# Altium footprint library ACJSMHD.PcbLib: 1 footprints
Each footprint in its own frame and in the unit in brackets; x right, y up, seen from the top. Pads: shape width x height; smd on the part's side, far side on the other; paste and mask are expansions set on the pad; w line width, h text height; cw(c..) or ccw(c..) is an arc to the next point about the centre after c.
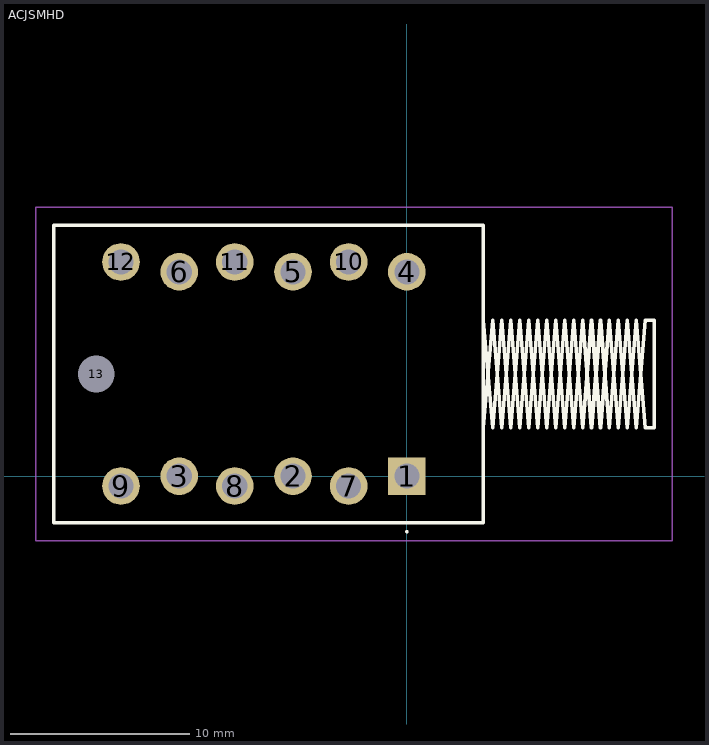
[diagram p0: the footprint, top view; thin cyan lines are the x and y axes]

## ACJSMHD [mm]
pads (13):
  rect 2.1x2.1 hole 1.4: 1(0,0)
  round 2.1 hole 1.4: 2(-6.35,0) 3(-12.7,0) 4(0,11.4) 5(-6.35,11.4) 6(-12.7,11.4) 7(-3.25,-0.55) 8(-9.6,-0.55) 9(-15.95,-0.55) 10(-3.25,11.95) 11(-9.6,11.95) 12(-15.95,11.95)
  round 1.025 hole 2.05 unplated: 13(-17.33,5.7)
Top Overlay:
  lines w0.1: 0,-3.15 0,-3.15 ; 0,-3.15 ccw(c0,-3.1) 0,-3.05 ; 0,-3.15 cw(c0,-3.1) 0,-3.05 ; 0,-3.05 0,-3.05
  lines w0.2: 4.25,2.7 4.8,8.7 5.3,2.7 5.8,8.7 6.3,2.7 6.8,8.7 7.3,2.7 7.8,8.7 8.3,2.7 8.8,8.7 9.3,2.7 9.8,8.7 10.3,2.7 10.8,8.7 11.3,2.7 11.8,8.7 12.3,2.7 12.8,8.7 13.3,2.7 13.8,2.7 13.8,8.7 13.3,8.7 12.8,2.7 12.3,8.7 11.8,2.7 11.3,8.7 10.8,2.7 10.3,8.7 9.8,2.7 9.3,8.7 8.8,2.7 8.3,8.7 7.8,2.7 7.3,8.7 6.8,2.7 6.3,8.7 5.8,2.7 5.3,8.7 4.8,2.7 4.25,8.7 ; -19.7,-2.6 4.25,-2.6 4.25,14 -19.7,14 -19.7,-2.6
Mechanical 15:
  lines w0.1: 4.25,2.7 4.8,8.7 5.3,2.7 5.8,8.7 6.3,2.7 6.8,8.7 7.3,2.7 7.8,8.7 8.3,2.7 8.8,8.7 9.3,2.7 9.8,8.7 10.3,2.7 10.8,8.7 11.3,2.7 11.8,8.7 12.3,2.7 12.8,8.7 13.3,2.7 13.8,2.7 13.8,8.7 13.3,8.7 12.8,2.7 12.3,8.7 11.8,2.7 11.3,8.7 10.8,2.7 10.3,8.7 9.8,2.7 9.3,8.7 8.8,2.7 8.3,8.7 7.8,2.7 7.3,8.7 6.8,2.7 6.3,8.7 5.8,2.7 5.3,8.7 4.8,2.7 4.25,8.7 ; -19.7,-2.6 4.25,-2.6 4.25,14 -19.7,14 -19.7,-2.6
Mechanical 20:
  lines w0.1: -20.7,-3.6 14.8,-3.6 14.8,15 -20.7,15 -20.7,-3.6